# Altium schematic symbol library USB3320C-EZK.SchLib: 2 symbols
Pins are listed as number, name and electrical type; pins without a type are passive.

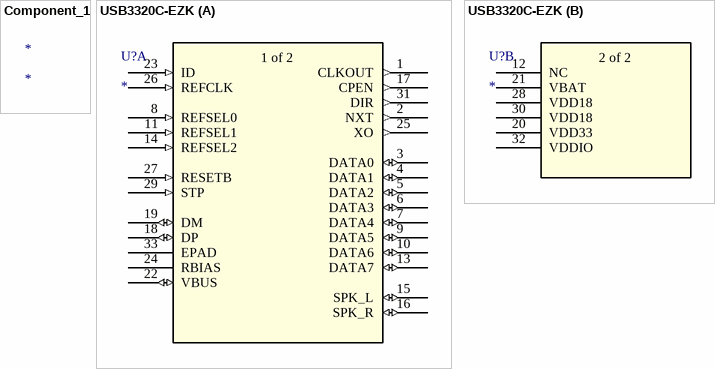
[diagram p0: symbols Component_1 to USB3320C-EZK]

## Component_1
designator *

## USB3320C-EZK
designator U?
No Description Available; Mfr_Name: Microchip; RefDes: RefDes; Type: Type
footprint QFN32_5X5MC_MCH
part A pins: 1 CLKOUT (out), 2 NXT (out), 3 DATA0 (io), 4 DATA1 (io), 5 DATA2 (io), 6 DATA3 (io), 7 DATA4 (io), 8 REFSEL0 (in), 9 DATA5 (io), 10 DATA6 (io), 11 REFSEL1 (in), 13 DATA7 (io), 14 REFSEL2 (in), 15 SPK_L (io), 16 SPK_R (io), 17 CPEN (out), 18 DP (io), 19 DM (io), 22 VBUS (io), 23 ID (in), 24 RBIAS, 25 XO (out), 26 REFCLK (in), 27 RESETB (in), 29 STP (in), 31 DIR (out), 33 EPAD
part B pins: 12 NC, 20 VDD33 (power), 21 VBAT (power), 28 VDD18 (power), 30 VDD18 (power), 32 VDDIO (power)
part A text: 1 of 2
part B text: 2 of 2